# EAGLE library part OMNETICS_FE18 (library connectors)
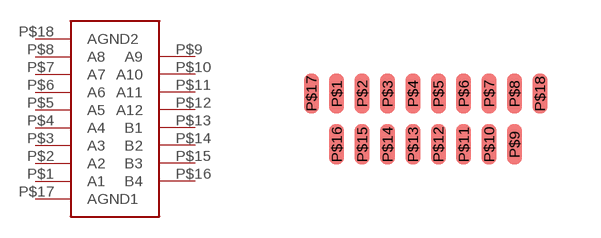
[diagram p4: symbol with the pads of OMNETICS_FE18; footprint OMNETICS_FE18]

Designator prefix -

## OMNETICS_FE18  [OMNETICS_FE18]
P$1  A1
P$2  A2
P$3  A3
P$4  A4
P$5  A5
P$6  A6
P$7  A7
P$8  A8
P$9  A9
P$10  A10
P$11  A11
P$12  A12
P$13  B1
P$14  B2
P$15  B3
P$16  B4
P$17  AGND1
P$18  AGND2

## Footprint OMNETICS_FE18 (pad centres in mm)
smd 0.381 x 1.016: P$1 -1.905,0.635; P$2 -1.27,0.635; P$3 -0.635,0.635; P$4 0,0.635; P$5 0.635,0.635; P$6 1.27,0.635; P$7 1.905,0.635; P$8 2.54,0.635; P$9 2.54,-0.635; P$10 1.905,-0.635; P$11 1.27,-0.635; P$12 0.635,-0.635; P$13 0,-0.635; P$14 -0.635,-0.635; P$15 -1.27,-0.635; P$16 -1.905,-0.635; P$17 -2.54,0.635; P$18 3.175,0.635